# Altium footprint library CHIP.PcbLib: 43 footprints (part 2 of 3)
Each footprint in its own frame and in the unit in brackets; x right, y up, seen from the top. Pads: shape width x height; smd on the part's side, far side on the other; paste and mask are expansions set on the pad; w line width, h text height; cw(c..) or ccw(c..) is an arc to the next point about the centre after c.
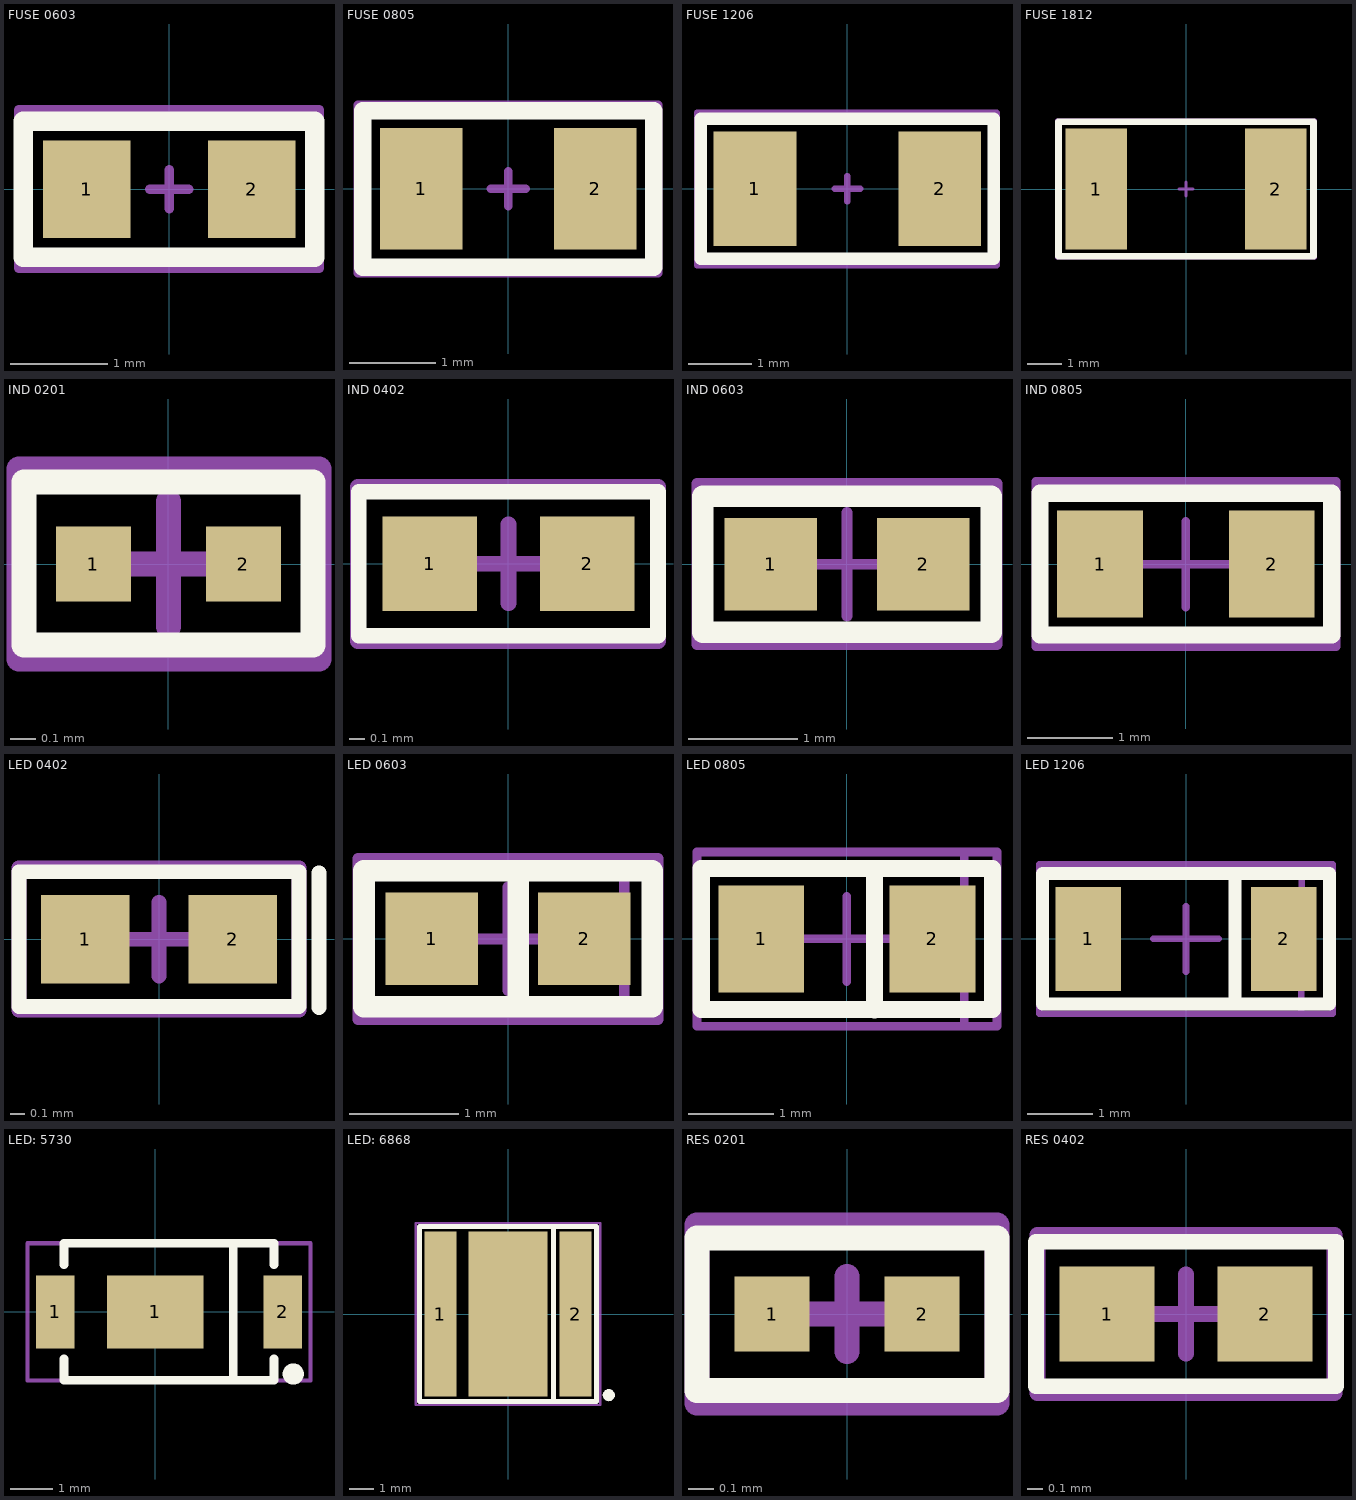
[diagram p1: the footprints below, top view; thin cyan lines are the x and y axes]

## FUSE 0603 [mm]
height 0.55
pads (2):
  rect 0.9x1 smd: 1(-0.85,0) 2(0.85,0)
Top Overlay:
  lines w0.2: -1.5,-0.7 -1.5,0.7 1.5,0.7 1.5,-0.7 -1.5,-0.7
Top Assembly:
  lines w0.1: -0.2,0 0.2,0 ; 0,-0.2 0,0.2 ; -1.545,-0.812 1.542,-0.812 1.542,0.816 -1.545,0.816 -1.545,-0.812
Top Courtyard (Mech15):
  lines w0.1: -1.545,-0.812 -1.545,0.816 1.542,0.816 1.542,-0.812 -1.545,-0.812
3D body "RES 0603 (1608 metric).STEP": height 0.54, standoff -0.01, extent -0.875,-0.475 0.875,0.475

## FUSE 0805 [mm]
pads (2):
  rect 0.95x1.4 smd: 1(-1,0) 2(1,0)
Top Overlay:
  lines w0.2: -1.675,-0.9 -1.675,0.9 1.675,0.9 1.675,-0.9 -1.675,-0.9
Top Assembly:
  lines w0.1: -0.2,0 0.2,0 ; 0,-0.2 0,0.2 ; -1.728,-0.969 -1.728,0.967 1.723,0.967 1.723,-0.969 -1.728,-0.969
Top Courtyard (Mech15):
  lines w0.1: -1.728,-0.969 -1.728,0.967 1.723,0.967 1.723,-0.969 -1.728,-0.969
3D body: height 0.5, standoff 0, extent -1,-0.625 1,0.625

## FUSE 1206 [mm]
height 0.7
pads (2):
  rect 1.3x1.8 smd: 1(-1.45,0) 2(1.45,0)
Top Overlay:
  lines w0.2: -2.3,-1.1 -2.3,1.1 2.3,1.1 2.3,-1.1 -2.3,-1.1
Top Assembly:
  lines w0.1: -0.2,0 0.2,0 ; 0,-0.2 0,0.2 ; -2.36,-1.2 2.346,-1.2 2.346,1.193 -2.36,1.193 -2.36,-1.2
Top Courtyard (Mech15):
  lines w0.1: -2.36,-1.2 -2.36,1.193 2.346,1.193 2.346,-1.2 -2.36,-1.2
3D body "User Library-0ZCJ0035FF2G-1.STEP": height 0.51, standoff 0.01, extent -1.7,-0.85 1.7,0.85

## FUSE 1812 [mm]
height 0.6
pads (2):
  rect 1.78x3.5 smd: 1(-2.6,0) 2(2.6,0)
Top Overlay:
  lines w0.2: -3.7,-1.95 3.7,-1.95 3.7,1.95 -3.7,1.95 -3.7,-1.95
Top Assembly:
  lines w0.1: -0.2,0 0.2,0 ; 0,-0.2 0,0.2 ; -3.751,-2 -3.7,-2 3.747,-2 3.747,2 -3.751,2 -3.751,-2
Top Courtyard (Mech15):
  lines w0.1: -3.751,-2 -3.7,-2 3.747,-2 3.747,2 -3.751,2 -3.751,-2
3D body "User Library-fuse1812.step": height 1.32, standoff 0, extent -2.41,-1.61 2.41,1.61

## IND 0201 [mm]
height 0.3
pads (2):
  rect 0.3x0.3 smd: 1(-0.3,0) 2(0.3,0)
Top Overlay:
  lines w0.1: -0.578,-0.324 0.579,-0.324 0.579,0.328 -0.578,0.328 -0.578,-0.324
Top Assembly:
  lines w0.1: -0.25,0 0.25,0 ; 0,-0.25 0,0.25 ; -0.598,-0.381 0.603,-0.381 0.603,0.381 -0.598,0.381 -0.598,-0.381
Top Courtyard (Mech15):
  lines w0.1: -0.15,0 0.15,0 ; 0,-0.15 0,0.15 ; -0.598,-0.381 0.603,-0.381 0.603,0.381 -0.598,0.381 -0.598,-0.381
3D body "INDC0603.step": height 0.3, standoff 0, extent -0.3,-0.15 0.3,0.15

## IND 0402 [mm]
height 0.5
pads (2):
  rect 0.6x0.6 smd: 1(-0.5,0) 2(0.5,0)
Top Overlay:
  lines w0.1: -0.95,-0.457 0.95,-0.457 0.95,0.457 -0.95,0.457 -0.95,-0.457
Top Assembly:
  lines w0.1: -0.25,0 0.25,0 ; 0,-0.25 0,0.25 ; -0.955,-0.489 -0.955,0.488 0.95,0.488 0.95,-0.489 -0.955,-0.489
Top Courtyard (Mech15):
  lines w0.1: -0.955,-0.489 -0.955,0.488 0.95,0.488 0.95,-0.489 -0.955,-0.489
3D body "Chip2PinSM127P600-8N.step": height 0.5, standoff 0, extent -0.5,-0.25 0.5,0.25

## IND 0603 [mm]
height 0.8
pads (2):
  rect 0.85x0.85 smd: 1(-0.7,0) 2(0.7,0)
Top Overlay:
  lines w0.2: -1.325,-0.625 -1.325,0.625 1.325,0.625 1.325,-0.625 -1.325,-0.625
Top Assembly:
  lines w0.1: -0.475,0 0.475,0 ; 0,-0.475 0,0.475 ; -1.377,-0.736 -1.377,0.741 1.377,0.741 1.377,-0.736 -1.377,-0.736
Top Courtyard (Mech15):
  lines w0.1: -1.377,-0.736 -1.377,0.741 1.377,0.741 1.377,-0.736 -1.377,-0.736
3D body "Chip2PinSM127P600-8N.step": height 0.8, standoff 0, extent -0.8,-0.4 0.8,0.4

## IND 0805 [mm]
height 1
pads (2):
  rect 1x1.25 smd: 1(-1,0) 2(1,0)
Top Overlay:
  lines w0.2: -1.7,-0.825 -1.7,0.825 1.7,0.825 1.7,-0.825 -1.7,-0.825
Top Assembly:
  lines w0.1: -0.5,0 0.5,0 ; 0,-0.5 0,0.5 ; -1.747,-0.965 -1.747,0.967 1.749,0.967 1.749,-0.965 -1.747,-0.965
Top Courtyard (Mech15):
  lines w0.1: -1.747,-0.965 -1.747,0.967 1.749,0.967 1.749,-0.965 -1.747,-0.965
3D body "User Library-FB_2012-1.STEP": height 0.85, standoff 0, extent -1,-0.625 1,0.625

## LED 0402 [mm]
height 0.35
pads (2):
  rect 0.6x0.6 smd: 1(-0.5,0) 2(0.5,0)
Top Overlay:
  lines w0.1: 1.086,-0.464 1.086,0.451 ; -0.95,-0.457 0.95,-0.457 0.95,0.457 -0.95,0.457 -0.95,-0.457
Top Assembly:
  lines w0.1: -0.25,0 0.25,0 ; 0,-0.25 0,0.25 ; -0.95,-0.482 0.95,-0.482 0.95,0.484 -0.95,0.484 -0.95,-0.482
Top Courtyard (Mech15):
  lines w0.1: -0.95,-0.482 0.95,-0.482 0.95,0.484 -0.95,0.484 -0.95,-0.482
3D body "8888.STEP": height 0.45, standoff 0, extent -0.505,-0.25 0.505,0.25

## LED 0603 [mm]
height 0.45
pads (2):
  rect 0.85x0.85 smd: 1(-0.7,0) 2(0.7,0)
Top Overlay:
  lines w0.2: 0.092,-0.591 0.092,0.615 ; -1.325,-0.625 1.325,-0.625 1.325,0.625 -1.325,0.625 -1.325,-0.625
Top Assembly:
  lines w0.1: -0.475,0 0.475,0 ; 0,-0.475 0,0.475 ; 1.067,-0.737 1.067,0.737 ; -1.38,-0.741 -1.38,0.737 1.377,0.737 1.377,-0.741 -1.38,-0.741
Top Courtyard (Mech15):
  lines w0.1: -1.38,-0.741 -1.38,0.737 1.377,0.737 1.377,-0.741 -1.38,-0.741
3D body "User Library-LED_0603_Y.STEP": height 0.6, standoff 0, extent -0.8,-0.4 0.8,0.4

## LED 0805 [mm]
height 1
pads (2):
  rect 1x1.25 smd: 1(-1,0) 2(1,0)
Top Overlay:
  lines w0.2: 0.321,-0.827 0.321,0.823 ; -1.7,-0.825 1.7,-0.825 1.7,0.825 -1.7,0.825 -1.7,-0.825
Top Assembly:
  lines w0.1: -0.5,0 0.5,0 ; 0,-0.5 0,0.5 ; 1.372,-1.016 1.372,1.016 ; -1.75,-1.017 -1.75,1.015 1.754,1.015 1.754,-1.017 -1.75,-1.017
Top Courtyard (Mech15):
  lines w0.1: -1.75,-1.017 1.754,-1.017 1.754,1.015 -1.75,1.015 -1.75,-1.017
3D body "orange.STEP": height 0.9, standoff -0.01, extent -1.05,-0.675 1.05,0.675

## LED 1206 [mm]
height 0.6
pads (2):
  rect 1x1.6 smd: 1(-1.5,0) 2(1.5,0)
Top Overlay:
  lines w0.2: 0.75,-1 0.75,1 ; -2.2,-1 -2.2,1 2.2,1 2.2,-1 -2.2,-1
Top Assembly:
  lines w0.1: -0.5,0 0.5,0 ; 0,-0.5 0,0.5 ; 1.771,-1.144 1.778,1.129 ; -2.25,-1.145 2.249,-1.145 2.249,1.142 -2.25,1.142 -2.25,-1.145
Top Courtyard (Mech15):
  lines w0.1: -2.25,-1.145 2.249,-1.145 2.249,1.142 -2.25,1.142 -2.25,-1.145
3D body "User Library-FYLS-1206.step": height 1.1, standoff 0, extent -1.6,-0.8 1.6,0.8

## LED: 5730 [mm]
pads (4):
  rect 0.9x1.7 smd: 1(-2.33,0) 2(2.97,0)
  rect 2.25x1.7 smd: 1(0,0)
  round 0.5 on Top Overlay: ""(3.22,-1.45)
Top Overlay:
  lines w0.2: -2.13,-1.1 -2.13,-1.6 0.32,-1.6 2.77,-1.6 2.77,-1.1 ; -2.13,1.1 -2.13,1.6 0.32,1.6 2.77,1.6 2.77,1.1 ; 1.82,-1.6 1.82,1.6
Top Assembly:
  lines w0.1: 0.02,0 0.62,0 ; 0.32,-0.3 0.32,0.3 ; -2.98,-1.6 -2.98,1.6 3.62,1.6 3.62,-1.6 -2.98,-1.6
Top Courtyard (Mech15):
  lines w0.1: -2.98,-1.6 -2.98,1.6 3.62,1.6 3.62,-1.6 -2.98,-1.6
3D body "LED 5730.stp": height 0.84, standoff 0.04, extent -2.53,-1.5 3.17,1.5

## LED: 6868 [mm]
pads (4):
  rect 1.3x6.7 smd: 1(-2.75,0) 2(2.75,0)
  rect 3.2x6.7 smd: ""(0,0)
  round 0.5 on Top Overlay: ""(4.1,-3.3)
Top Overlay:
  lines w0.2: 1.85,-3.55 1.85,3.5 ; -3.6,-3.55 -3.6,3.55 3.6,3.55 3.6,-3.55 -3.6,-3.55
Top Assembly:
  lines w0.1: -0.3,0 0.3,0 ; 0,-0.3 0,0.3 ; -3.75,-3.7 3.75,-3.7 3.75,3.7 -3.75,3.7 -3.75,-3.7
Top Courtyard (Mech15):
  lines w0.1: -3.75,-3.7 3.75,-3.7 3.75,3.7 -3.75,3.7 -3.75,-3.7
3D body "6666.STEP": height 1.55, standoff 0, extent -3.4,-3.4 3.4,3.4

## RES 0201 [mm]
height 0.23
pads (2):
  rect 0.3x0.3 smd: 1(-0.3,0) 2(0.3,0)
Top Overlay:
  lines w0.1: -0.6,-0.306 0.6,-0.306 0.6,0.305 -0.6,0.305 -0.6,-0.306
Top Assembly:
  lines w0.1: -0.15,0 0.15,0 ; 0,-0.15 0,0.15 ; -0.6,-0.356 0.6,-0.356 0.6,0.357 -0.6,0.357 -0.6,-0.356
Top Courtyard (Mech15):
  lines w0.1: -0.6,-0.356 0.6,-0.356 0.6,0.357 -0.6,0.357 -0.6,-0.356
3D body "chip_0201_r.STEP": height 0.22, standoff -0.02, extent -0.3,-0.15 0.3,0.15

## RES 0402 [mm]
height 0.35
pads (2):
  rect 0.6x0.6 smd: 1(-0.5,0) 2(0.5,0)
Top Overlay:
  lines w0.1: -0.95,-0.457 0.95,-0.457 0.95,0.457 -0.95,0.457 -0.95,-0.457
Top Assembly:
  lines w0.1: -0.25,0 0.25,0 ; 0,-0.25 0,0.25 ; -0.94,-0.5 -0.94,0.5 0.94,0.5 0.94,-0.5 -0.94,-0.5
Top Courtyard (Mech15):
  lines w0.1: -0.94,-0.5 0.94,-0.5 0.94,0.5 -0.94,0.5 -0.94,-0.5
3D body "chip_0402_r.STEP": height 0.34, standoff -0.02, extent -0.525,-0.25 0.475,0.25